# Altium footprint library PcbLib1.PcbLib: 54 footprints (part 1 of 4)
Each footprint in its own frame and in the unit in brackets; x right, y up, seen from the top. Pads: shape width x height; smd on the part's side, far side on the other; paste and mask are expansions set on the pad; w line width, h text height; cw(c..) or ccw(c..) is an arc to the next point about the centre after c.
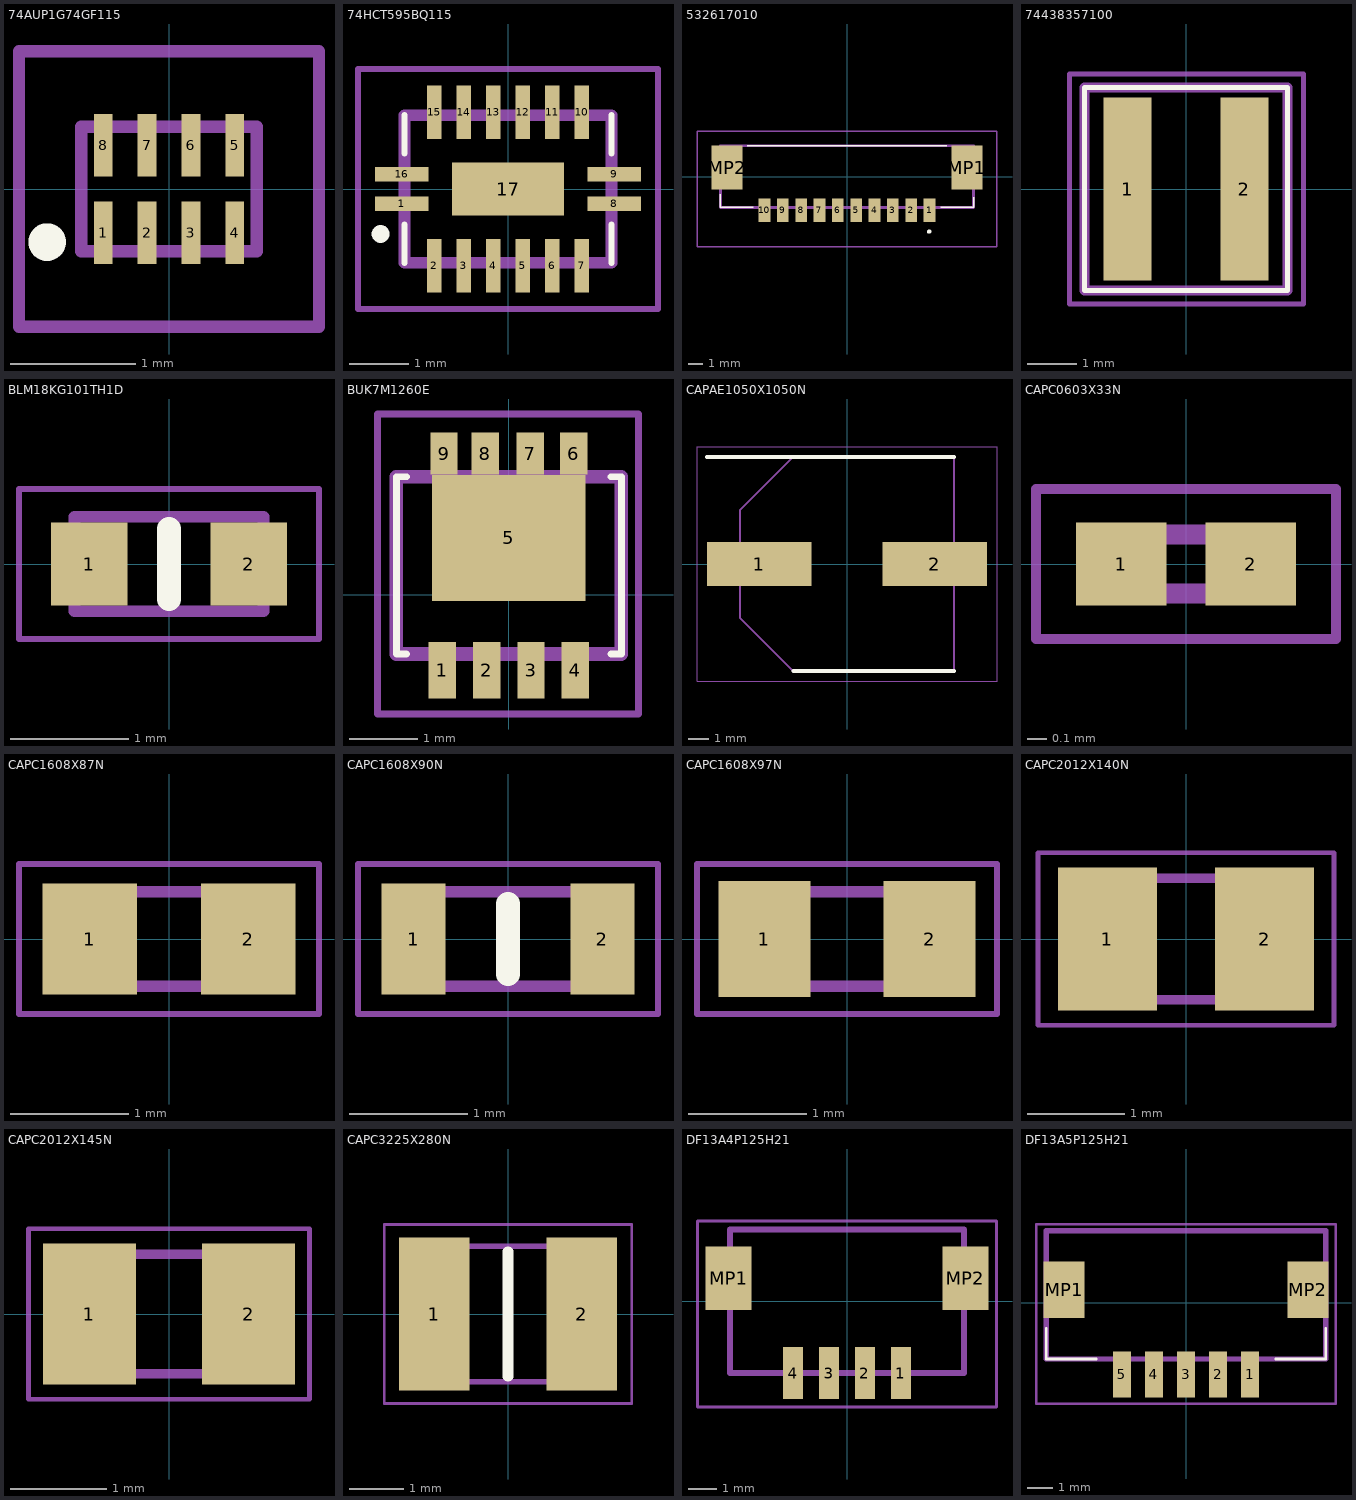
[diagram p0: the footprints below, top view; thin cyan lines are the x and y axes]

## 74AUP1G74GF115 [mm]
pads (8):
  rect 0.15x0.5 smd: 1(-0.525,-0.35) 2(-0.175,-0.35) 3(0.175,-0.35) 4(0.525,-0.35) 5(0.525,0.35) 6(0.175,0.35) 7(-0.175,0.35) 8(-0.525,0.35)
Top Overlay:
  lines w0.2: -0.975,-0.475 ccw(c-0.975,-0.425) -0.975,-0.375 ; -0.975,-0.475 cw(c-0.975,-0.425) -0.975,-0.375 ; -0.975,-0.475 ccw(c-0.975,-0.425) -0.975,-0.375
Mechanical 13:
  lines w0.1: -0.7,-0.5 -0.7,0.5 0.7,0.5 0.7,-0.5 -0.7,-0.5
Mechanical 15:
  lines w0.1: -1.2,-1.1 -1.2,1.1 1.2,1.1 1.2,-1.1 -1.2,-1.1
3D body "74AUP2G132GF,115.stp": height 0.6, standoff 0, extent -0.7,-0.5 0.7,0.5

## 74HCT595BQ115 [mm]
pads (17):
  rect 0.9x0.24 smd: 1(-1.8,-0.25) 8(1.8,-0.25) 9(1.8,0.25) 16(-1.8,0.25)
  rect 0.24x0.9 smd: 2(-1.25,-1.3) 3(-0.75,-1.3) 4(-0.25,-1.3) 5(0.25,-1.3) 6(0.75,-1.3) 7(1.25,-1.3) 10(1.25,1.3) 11(0.75,1.3) 12(0.25,1.3) 13(-0.25,1.3) 14(-0.75,1.3) 15(-1.25,1.3)
  rect 1.9x0.9 smd: 17(0,0)
Top Overlay:
  lines w0.1: -1.75,-1.25 -1.75,-0.6 ; -1.75,0.6 -1.75,1.25 ; 1.75,-1.25 1.75,-0.6 ; 1.75,0.6 1.75,1.25
  lines w0.2: -2.158,-0.812 ccw(c-2.158,-0.762) -2.158,-0.712 ; -2.158,-0.812 cw(c-2.158,-0.762) -2.158,-0.712 ; -2.158,-0.812 ccw(c-2.158,-0.762) -2.158,-0.712
Mechanical 13:
  lines w0.2: -1.75,-1.25 1.75,-1.25 1.75,1.25 -1.75,1.25 -1.75,-1.25
Mechanical 15:
  lines w0.102: -2.54,-2.032 2.54,-2.032 2.54,2.032 -2.54,2.032 -2.54,-2.032
3D body "74LVC138ABQ,115.stp": height 1, standoff 0, extent -1.8,-1.3 1.8,1.3

## 532617010 [mm]
pads (12):
  rect 0.8x1.6 smd: 1(5.625,-2.3) 2(4.375,-2.3) 3(3.125,-2.3) 4(1.875,-2.3) 5(0.625,-2.3) 6(-0.625,-2.3) 7(-1.875,-2.3) 8(-3.125,-2.3) 9(-4.375,-2.3) 10(-5.625,-2.3)
  rect 2.1x3 smd: MP1(8.175,0.6) MP2(-8.175,0.6)
Top Overlay:
  lines w0.1: -8.625,-2.1 -6.4,-2.1 -8.625,-2.1 ; -8.625,-2.1 -8.625,-1.2 -8.625,-2.1 ; 8.625,-2.1 8.625,-1.4 8.625,-2.1 ; 8.625,-2.1 6.4,-2.1 8.625,-2.1 ; -6.8,2.1 6.8,2.1 -6.8,2.1
  lines w0.2: 5.6,-3.8 cw(c5.6,-3.75) 5.6,-3.7 ; 5.6,-3.8 ccw(c5.6,-3.75) 5.6,-3.7 ; 5.6,-3.8 cw(c5.6,-3.75) 5.6,-3.7
Mechanical 13:
  lines w0.2: -8.625,-2.1 -8.625,2.1 8.625,2.1 8.625,-2.1 -8.625,-2.1
Mechanical 15:
  lines w0.1: -10.225,-4.8 -10.225,3.1 10.225,3.1 10.225,-4.8 -10.225,-4.8
3D body "53261-7010.stp": height 3.5, standoff 0, extent -9.015,-3.02 9.015,2.1

## 74438357100 [mm]
pads (2):
  rect 0.97x3.7 smd: 1(-1.18,0) 2(1.18,0)
Top Overlay:
  lines w0.1: -2.05,-2.05 -2.05,2.05 2.05,2.05 2.05,-2.05 -2.05,-2.05
Mechanical 13:
  lines w0.2: -2.05,-2.05 -2.05,2.05 2.05,2.05 2.05,-2.05 -2.05,-2.05
Mechanical 15:
  lines w0.1: -2.35,-2.325 -2.35,2.325 2.375,2.325 2.375,-2.325 -2.35,-2.325
3D body "74438357100.stp": height 4.1, standoff 0, extent -2.05,-2.05 2.05,2.05

## BLM18KG101TH1D [mm]
pads (2):
  rect 0.65x0.7 smd: 1(-0.675,0) 2(0.675,0)
Top Overlay:
  lines w0.2: 0,-0.3 0,0.3
Mechanical 13:
  lines w0.1: -0.8,-0.4 0.8,-0.4 0.8,0.4 -0.8,0.4 -0.8,-0.4
Mechanical 15:
  lines w0.05: -1.27,-0.635 1.27,-0.635 1.27,0.635 -1.27,0.635 -1.27,-0.635
3D body "BLM18KG300TH1D.stp": height 0.85, standoff 0, extent -0.935,-0.4 0.935,0.4

## BUK7M1260E [mm]
pads (9):
  rect 0.4x0.83 smd: 1(-0.975,-1.106) 2(-0.325,-1.106) 3(0.325,-1.106) 4(0.975,-1.106)
  rect 2.25x1.85 smd: 5(0,0.834)
  rect 0.4x0.62 smd: 6(0.95,2.069) 7(0.312,2.069) 8(-0.345,2.069) 9(-0.95,2.069)
Top Overlay:
  lines w0.1: -1.5,-0.869 -1.65,-0.869 -1.65,1.731 -1.5,1.731 ; 1.5,-0.869 1.65,-0.869 1.65,1.731 1.5,1.731
Mechanical 13:
  lines w0.2: -1.65,-0.869 -1.65,1.731 1.65,1.731 1.65,-0.869 -1.65,-0.869
Mechanical 15:
  lines w0.1: -1.925,-1.75 -1.925,2.65 1.9,2.65 1.9,-1.75 -1.925,-1.75

## CAPAE1050X1050N [mm]
pads (2):
  rect 5.1x2.15 smd: 1(-4.3,0) 2(4.3,0)
Top Overlay:
  lines w0.2: -6.85,5.25 5.25,5.25 ; -2.625,-5.25 5.25,-5.25
Mechanical 13:
  lines w0.1: -5.25,-2.625 -5.25,2.625 -2.625,5.25 5.25,5.25 5.25,-5.25 -2.625,-5.25 -5.25,-2.625
Mechanical 15:
  lines w0.05: -7.35,-5.75 7.35,-5.75 7.35,5.75 -7.35,5.75 -7.35,-5.75
3D body "MAL215097701E3.stp": height 10.5, standoff 0, extent -6.05,-5.25 6.05,5.25

## CAPC0603X33N [mm]
pads (2):
  rect 0.46x0.42 smd: 1(-0.33,0) 2(0.33,0)
Mechanical 13:
  lines w0.1: -0.3,-0.15 -0.3,0.15 0.3,0.15 0.3,-0.15 -0.3,-0.15
Mechanical 15:
  lines w0.05: -0.762,-0.381 -0.762,0.381 0.762,0.381 0.762,-0.381 -0.762,-0.381
3D body "GRM033R71E102KA01D.stp": height 0.33, standoff 0, extent -0.3,-0.15 0.3,0.15

## CAPC1608X87N [mm]
pads (2):
  rect 0.8x0.94 smd: 1(-0.67,0) 2(0.67,0)
Mechanical 13:
  lines w0.1: -0.8,-0.4 -0.8,0.4 0.8,0.4 0.8,-0.4 -0.8,-0.4
Mechanical 15:
  lines w0.05: -1.27,-0.635 -1.27,0.635 1.27,0.635 1.27,-0.635 -1.27,-0.635
3D body "885012206075.stp": height 0.87, standoff 0, extent -0.8,-0.4 0.8,0.4

## CAPC1608X90N [mm]
pads (2):
  rect 0.54x0.94 smd: 1(-0.8,0) 2(0.8,0)
Top Overlay:
  lines w0.2: 0,-0.3 0,0.3
Mechanical 13:
  lines w0.1: -0.8,-0.4 0.8,-0.4 0.8,0.4 -0.8,0.4 -0.8,-0.4
Mechanical 15:
  lines w0.05: -1.27,-0.635 1.27,-0.635 1.27,0.635 -1.27,0.635 -1.27,-0.635
3D body "CGA3E2X7R1H473K080AA.stp": height 0.9, standoff 0, extent -0.8,-0.4 0.8,0.4

## CAPC1608X97N [mm]
pads (2):
  rect 0.78x0.98 smd: 1(-0.7,0) 2(0.7,0)
Mechanical 13:
  lines w0.1: -0.8,-0.4 -0.8,0.4 0.8,0.4 0.8,-0.4 -0.8,-0.4
Mechanical 15:
  lines w0.05: -1.27,-0.635 -1.27,0.635 1.27,0.635 1.27,-0.635 -1.27,-0.635
3D body "VJ0603Y104JXJAC.stp": height 0.97, standoff 0, extent -0.8,-0.4 0.8,0.4

## CAPC2012X140N [mm]
pads (2):
  rect 1.02x1.47 smd: 1(-0.81,0) 2(0.81,0)
Mechanical 13:
  lines w0.1: -1.005,-0.625 1.005,-0.625 1.005,0.625 -1.005,0.625 -1.005,-0.625
Mechanical 15:
  lines w0.05: -1.524,-0.889 1.524,-0.889 1.524,0.889 -1.524,0.889 -1.524,-0.889
3D body "08051C474KAT2A.stp": height 1.4, standoff 0, extent -1.005,-0.625 1.005,0.625

## CAPC2012X145N [mm]
pads (2):
  rect 0.97x1.47 smd: 1(-0.83,0) 2(0.83,0)
Mechanical 13:
  lines w0.1: -1,-0.625 -1,0.625 1,0.625 1,-0.625 -1,-0.625
Mechanical 15:
  lines w0.05: -1.465,-0.89 -1.465,0.89 1.465,0.89 1.465,-0.89 -1.465,-0.89
3D body "GRM21BR61E106KA73K.stp": height 1.45, standoff 0, extent -1,-0.625 1,0.625

## CAPC3225X280N [mm]
pads (2):
  rect 1.3x2.82 smd: 1(-1.36,0) 2(1.36,0)
Top Overlay:
  lines w0.2: 0,-1.15 0,1.15
Mechanical 13:
  lines w0.1: -1.6,-1.25 -1.6,1.25 1.6,1.25 1.6,-1.25 -1.6,-1.25
Mechanical 15:
  lines w0.05: -2.286,-1.651 -2.286,1.651 2.286,1.651 2.286,-1.651 -2.286,-1.651
3D body "CL32B106KMVNNWE.stp": height 2.8, standoff 0, extent -1.6,-1.25 1.6,1.25

## DF13A4P125H21 [mm]
pads (6):
  rect 0.7x1.8 smd: 1(1.875,-2.5) 2(0.625,-2.5) 3(-0.625,-2.5) 4(-1.875,-2.5)
  rect 1.6x2.2 smd: MP1(-4.125,0.8) MP2(4.125,0.8)
Mechanical 13:
  lines w0.2: -4.075,-2.5 4.075,-2.5 4.075,2.5 -4.075,2.5 -4.075,-2.5
Mechanical 15:
  lines w0.1: -5.207,-3.683 5.207,-3.683 5.207,2.794 -5.207,2.794 -5.207,-3.683
3D body "DF13A-4P-1.25H_21_.stp": height 3.7, standoff 0, extent -4.765,-3.33 4.765,2.5

## DF13A5P125H21 [mm]
pads (7):
  rect 0.7x1.8 smd: 1(2.5,-2.8) 2(1.25,-2.8) 3(0,-2.8) 4(-1.25,-2.8) 5(-2.5,-2.8)
  rect 1.6x2.2 smd: MP1(-4.75,0.5) MP2(4.75,0.5)
Top Overlay:
  lines w0.1: -5.45,-1 -5.45,-2.2 -3.5,-2.2 ; 3.5,-2.2 5.45,-2.2 5.45,-1
Mechanical 13:
  lines w0.2: -5.45,-2.2 -5.45,2.8 5.45,2.8 5.45,-2.2 -5.45,-2.2
Mechanical 15:
  lines w0.1: -5.842,-3.937 -5.842,3.048 5.842,3.048 5.842,-3.937 -5.842,-3.937
3D body "DF13A-5P-1.25H.stp": height 3.58, standoff -0.02, extent -5.45,-3.327 5.45,3.173